# Altium schematic symbol library Q_PFET_6PIN.SchLib: 1 symbol
Pins are listed as number, name and electrical type; pins without a type are passive.

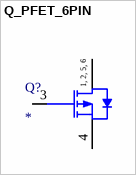
[diagram p0: symbol Q_PFET_6PIN]

## Q_PFET_6PIN
designator Q?
pins: 1 D, 2 D, 3 G, 4 S, 5 D, 6 D
text: 1, 2, 5, 6